# Altium schematic symbol library integrated_circuits-Power.SchLib: 5 symbols
Pins are listed as number, name and electrical type; pins without a type are passive.

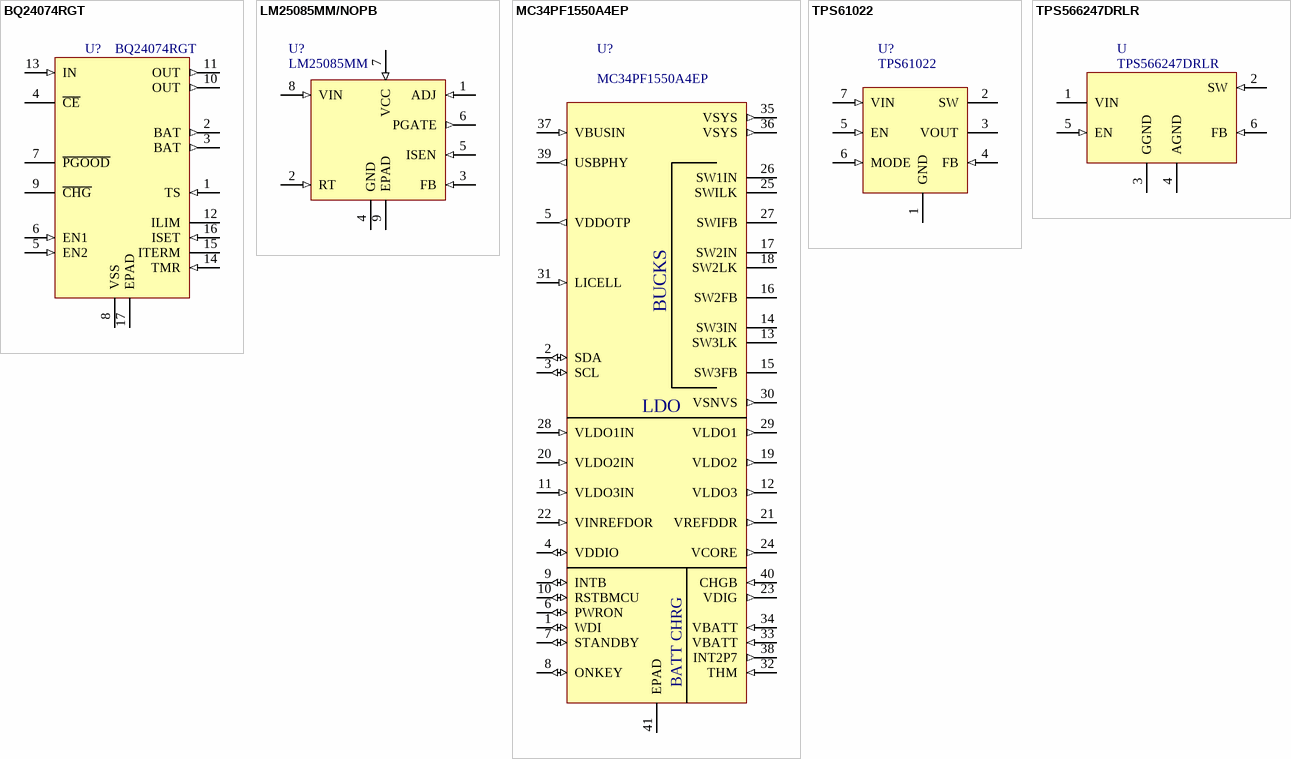
[diagram p0: symbols BQ24074RGT to TPS566247DRLR]

## BQ24074RGT
designator U?
BQ24074RGT: U?
footprint QFN_16_3mmX3mm_1EP_1.7x1.7mm
pins: 1 TS (in), 2 BAT (out), 3 BAT (out), 4 ~{CE}, 5 EN2 (in), 6 EN1 (in), 7 ~{PGOOD} (oe), 8 VSS (power), 9 ~{CHG} (oe), 10 OUT (out), 11 OUT (out), 12 ILIM, 13 IN (in), 14 TMR (in), 15 ITERM, 16 ISET (in), 17 EPAD (power)

## LM25085MM/NOPB
designator U?, comment LM25085MM
footprint VSSOP_3mmX3mm_P0.65
pins: 1 ADJ (in), 2 RT (in), 3 FB (in), 4 GND (power), 5 ISEN (in), 6 PGATE (out), 7 VCC (in), 8 VIN (in), 9 EPAD (power)

## MC34PF1550A4EP
designator U?
footprint QFN-40PIN-P0.4-5x5mm_EPAD-3.8x3.8mm
pins: 1 WDI (io), 2 SDA (io), 3 SCL (io), 4 VDDIO (io), 5 VDDOTP (out), 6 PWRON (io), 7 STANDBY (io), 8 ONKEY (io), 9 INTB (io), 10 RSTBMCU (io), 11 VLDO3IN (in), 12 VLDO3 (out), 13 SW3LK, 14 SW3IN, 15 SW3FB, 16 SW2FB, 17 SW2IN, 18 SW2LK, 19 VLDO2 (out), 20 VLDO2IN (in), 21 VREFDDR (out), 22 VINREFDOR (in), 23 VDIG (out) "VDIG REGULATOR OUTPUT", 24 VCORE (out) "VCORE REGULATOR OUTPUT", 25 SWILK, 26 SW1IN, 27 SWIFB, 28 VLDO1IN (in), 29 VLDO1 (out), 30 VSNVS (out), 31 LICELL (in), 32 THM (in), 33 VBATT (in), 34 VBATT (in), 35 VSYS (out), 36 VSYS (out), 37 VBUSIN (in), 38 INT2P7 (out), 39 USBPHY (out), 40 CHGB (in), 41 EPAD (power)
text: BUCKS; LDO; BATT CHRG

## TPS61022
designator U?
footprint CONV_TPS61022RWUR
pins: 1 GND (power), 2 SW (power), 3 VOUT (power), 4 FB (in), 5 EN (in), 6 MODE (in), 7 VIN (in)

## TPS566247DRLR
designator U
footprint SOT50P170X60-6N
pins: 1 VIN (power), 2 SW (in), 3 GGND (power), 4 AGND (power), 5 EN (in), 6 FB (in)